# Altium footprint library 5-5530843-0.PcbLib: 1 footprints
Each footprint in its own frame and in the unit in brackets; x right, y up, seen from the top. Pads: shape width x height; smd on the part's side, far side on the other; paste and mask are expansions set on the pad; w line width, h text height; cw(c..) or ccw(c..) is an arc to the next point about the centre after c.
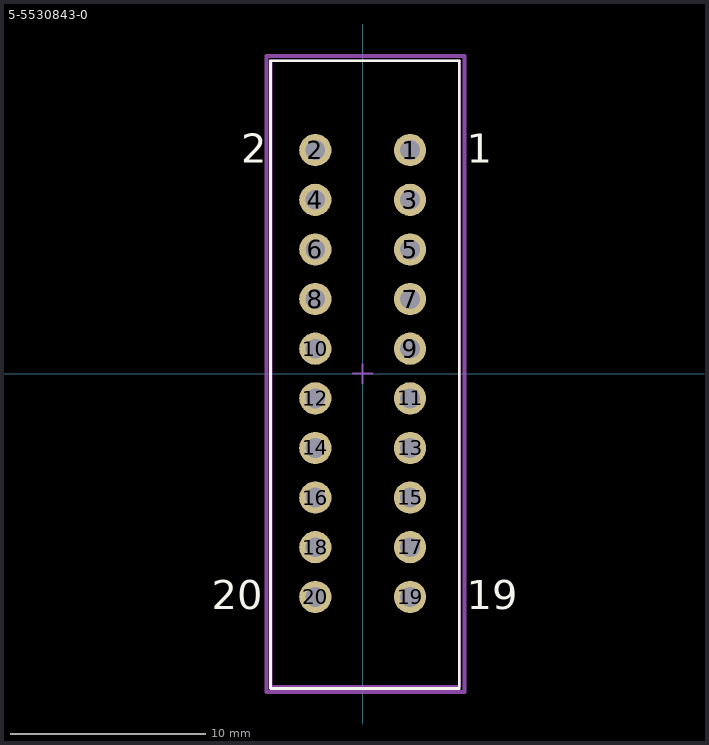
[diagram p0: the footprint, top view; thin cyan lines are the x and y axes]

## 5-5530843-0 [mil] "CONN SEC II 10 POS 100C/L"
pads (20):
  round 65 hole 40 mask+2.76: 1(95.5,450) 2(-95.5,450) 3(95.5,350) 4(-95.5,350) 5(95.5,250) 6(-95.5,250) 7(95.5,150) 8(-95.5,150) 9(95.5,50) 10(-95.5,50) 11(95.5,-50) 12(-95.5,-50) 13(95.5,-150) 14(-95.5,-150) 15(95.5,-250) 16(-95.5,-250) 17(95.5,-350) 18(-95.5,-350) 19(95.5,-450) 20(-95.5,-450)
Top Overlay:
  lines w5.91: -185.5,-635 194.5,-635 194.5,630 -180.5,630 -185.5,630 -185.5,-635
  text "19" at 210,-475 h59.06
  text "20" at -304.04,-475 h59.06
  text "2" at -245,425 h59.06
  text "1" at 210,425 h59.06
Top Assembly:
  lines w3.94: -19.68,0 19.68,0 ; 0,-19.68 0,19.68
  lines w5.91: -185,-630 -185,630 195,630 195,-630 -185,-630
Top Courtyard:
  lines w7.87: -193.94,-641.99 205.39,-641.99 205.39,640 -193.94,640 -193.94,254.27 -193.94,-641.99
3D body "c-5-5530843-0-f-3d.stp": height 610, standoff -125, extent -182,-630 191,630